# Altium schematic symbol library 08051C103JAT2A.SchLib: 2 symbols
Pins are listed as number, name and electrical type; pins without a type are passive.

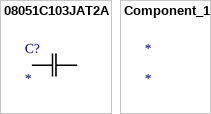
[diagram p0: symbols 08051C103JAT2A to Component_1]

## 08051C103JAT2A
designator C?
No Description Available; Mfr_Name: KYOCERA AVX
footprint 0805_AVX
pins: 1, 2

## Component_1
designator *